# EAGLE library part AT45DB321E-SHF-B (library mbed-HDK-IC)
Serial Flash 32 Mb 85 Mhz
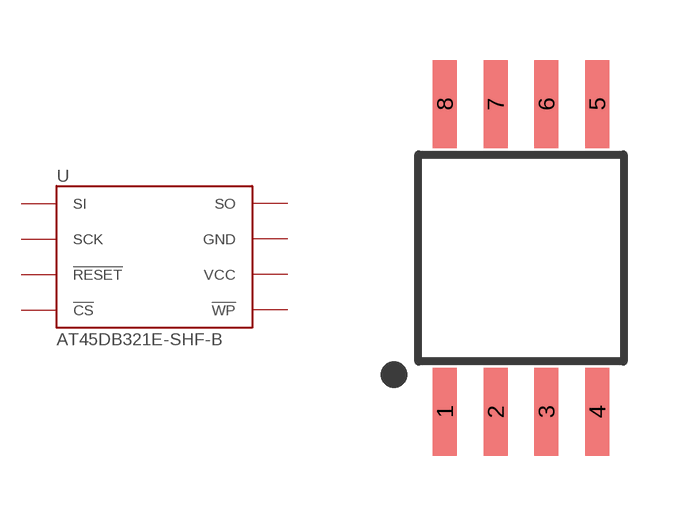
[diagram p10: symbol with the pads of SO8-WIDE; footprint SO8-WIDE]

Designator prefix U

## AT45DB321E-SHF-B (MF: Adesto Technologies; MFN: AT45DB321E-SHF-B; OC-DIGIKEY: 1265-1072-5-ND; OC-MOUSER: 988-AT45DB321E-SHF-B; OC-NEWARK: 2414318)  [SO8-WIDE]
1  SI
2  SCK
3  !RESET
4  !CS
5  !WP
6  VCC
7  GND
8  SO

## Footprint SO8-WIDE (pad centres in mm)
smd 0.6 x 2.2: 1 -1.905,-3.85; 2 -0.635,-3.85; 3 0.635,-3.85; 4 1.905,-3.85; 5 1.905,3.85; 6 0.635,3.85; 7 -0.635,3.85; 8 -1.905,3.85